# Altium schematic symbol library micro_mousev1.0.SchLib: 11 symbols
Pins are listed as number, name and electrical type; pins without a type are passive.

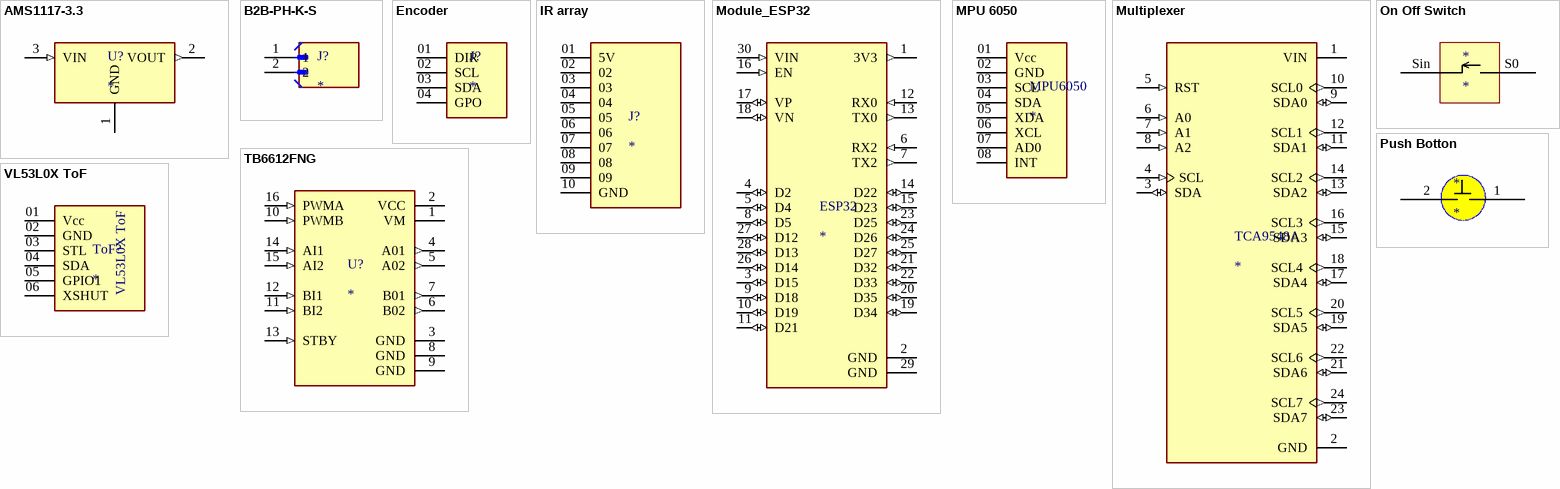
[diagram p0: symbols AMS1117-3.3 to VL53L0X ToF]

## AMS1117-3.3
designator U?
Sot223/Pkg 1-Amp 3.3-Volt Low Drop Out Voltage Regulatator; MF: Advanced Monolithic Systems; MP: AMS1117-3.3; SnapEDA_Link: https://www.snapeda.com/parts/AMS1117-3.3/Advanced+Monolithic+Systems/view-part/?ref=snap; Package: SOT-223 Seeed Technology; Value: *; Check_prices: https://www.snapeda.com/parts/AMS1117-3.3/Advanced+Monolithic+Systems/view-part/?ref=eda
footprint SOT229P700X180-4N
pins: 1 GND (power), 2 VOUT (out), 3 VIN (in)

## B2B-PH-K-S
designator J?
Connector Header Through Hole 2 position 0.079 (2.00mm); MF: JST Sales America Inc.; MP: B2B-PH-K-S; SnapEDA_Link: https://www.snapeda.com/parts/B2B-PH-K-S/JST/view-part/?ref=snap; Package: None; Value: *; Check_prices: https://www.snapeda.com/parts/B2B-PH-K-S/JST/view-part/?ref=eda
footprint JST_B2B-PH-K-S
pins: 1, 2

## Encoder
designator J?
Variable Post Height Header Strips, 2.00 mm Pitch; MF: SAMTEC; MP: MTMM-104-08-T-S-315; SnapEDA_Link: https://www.snapeda.com/parts/MTMM-104-08-T-S-315/Samtec/view-part/?ref=snap; Package: None; Value: *; Check_prices: https://www.snapeda.com/parts/MTMM-104-08-T-S-315/Samtec/view-part/?ref=eda
footprint Encoder 4 pin
pins: 01 DIR, 02 SCL, 03 SDA, 04 GPO

## IR array
designator J?
MP: TSW-210-15-L-S; Package: None; Price: None; Value: *; Availability: Unavailable
footprint IR array
pins: 01 5V, 02, 03, 04, 05, 06, 07, 08, 09, 10 GND

## Module_ESP32
designator ESP32
footprint MODULE_ESP32_DEVKIT_V1
pins: 1 3V3 (out), 2 GND (power), 3 D15 (io), 4 D2 (io), 5 D4 (io), 6 RX2 (in), 7 TX2 (out), 8 D5 (io), 9 D18 (io), 10 D19 (io), 11 D21 (io), 12 RX0 (in), 13 TX0 (out), 14 D22 (io), 15 D23 (io), 16 EN (in), 17 VP (io), 18 VN (io), 19 D34 (io), 20 D35 (io), 21 D32 (io), 22 D33 (io), 23 D25 (io), 24 D26 (io), 25 D27 (io), 26 D14 (io), 27 D12 (io), 28 D13 (io), 29 GND (power), 30 VIN (in)

## MPU 6050
designator MPU6050
CONN HDR .050 8POS; MF: Samtec; MP: MTMS-108-02-T-S-100; SnapEDA_Link: https://www.snapeda.com/parts/MTMS-108-02-T-S-100/Samtec/view-part/?ref=snap; Package: None; Value: *; Check_prices: https://www.snapeda.com/parts/MTMS-108-02-T-S-100/Samtec/view-part/?ref=eda
footprint 8 Pin MPU
pins: 01 Vcc, 02 GND, 03 SCL, 04 SDA, 05 XDA, 06 XCL, 07 AD0, 08 INT

## Multiplexer
designator TCA9548A
Module: multiplexer; I2C interface multiplexer; TCA9548A; 3Ã·5VDC; MF: Adafruit; MP: 2717; SnapEDA_Link: https://www.snapeda.com/parts/2717/Adafruit+Industries/view-part/?ref=snap; Package: None; Value: *; Check_prices: https://www.snapeda.com/parts/2717/Adafruit+Industries/view-part/?ref=eda
footprint MODULE_2717
pins: 1 VIN (power), 2 GND (power), 3 SDA (io), 4 SCL (in), 5 RST (in), 6 A0 (in), 7 A1 (in), 8 A2 (in), 9 SDA0 (io), 10 SCL0 (out), 11 SDA1 (io), 12 SCL1 (out), 13 SDA2 (io), 14 SCL2 (out), 15 SDA3 (io), 16 SCL3 (out), 17 SDA4 (io), 18 SCL4 (out), 19 SDA5 (io), 20 SCL5 (out), 21 SDA6 (io), 22 SCL6 (out), 23 SDA7 (io), 24 SCL7 (out)

## On Off Switch
designator *
footprint Switch
pins: S0, Sin P27

## Push Botton
designator *
footprint Push botton
pins: 1 P30, 2 P29

## TB6612FNG
designator U?
TB6612FNG Motor Controller/Driver Power Management Evaluation Board; MP: ROB-14450; MF: SparkFun Electronics; Check_prices: https://www.snapeda.com/parts/ROB-14450/SparkFun%20Electronics/view-part/2656367/?ref=eda; Package: None; Value: *; Availability: In Stock; SnapEDA_Link: https://www.snapeda.com/parts/ROB-14450/SparkFun%20Electronics/view-part/2656367/?ref=snap; Price: None
footprint TB6612FNG
pins: 1 VM (power), 2 VCC (power), 3 GND (power), 4 A01 (out), 5 A02 (out), 6 B02 (out), 7 B01 (out), 8 GND (power), 9 GND (power), 10 PWMB (in), 11 BI2 (in), 12 BI1 (in), 13 STBY (in), 14 AI1 (in), 15 AI2 (in), 16 PWMA (in)

## VL53L0X ToF
designator ToF?
MP: ZW-06-09-L-S-312-160; Value: *; Availability: Unavailable; Package: None; Price: None
footprint VL53L0X ToF
pins: 01 Vcc, 02 GND, 03 STL, 04 SDA, 05 GPIO1, 06 XSHUT